# Altium schematic symbol library PTS635SL50LFS.SchLib: 1 symbol
Pins are listed as number, name and electrical type; pins without a type are passive.

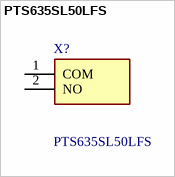
[diagram p0: symbol PTS635SL50LFS]

## PTS635SL50LFS
designator X?
Tactile Switches TACT; Manufacturer_Name: C & K COMPONENTS; Geometry.Height: 5mm; Mouser Part Number: 611-PTS635SL50LFS; Mouser Price/Stock: https://www.mouser.co.uk/ProductDetail/CK/PTS635SL50LFS?qs=u2NJ%252B70r0gpkXWlfBVOo5A%3D%3D; Manufacturer_Part_Number: PTS635SL50LFS; Datasheet Link: *
footprint PTS635SL50LFS
pins: 1 COM, 2 NO